# Altium footprint library 29_to_100_Pin.PcbLib: 45 footprints (part 2 of 3)
Each footprint in its own frame and in the unit in brackets; x right, y up, seen from the top. Pads: shape width x height; smd on the part's side, far side on the other; paste and mask are expansions set on the pad; w line width, h text height; cw(c..) or ccw(c..) is an arc to the next point about the centre after c.
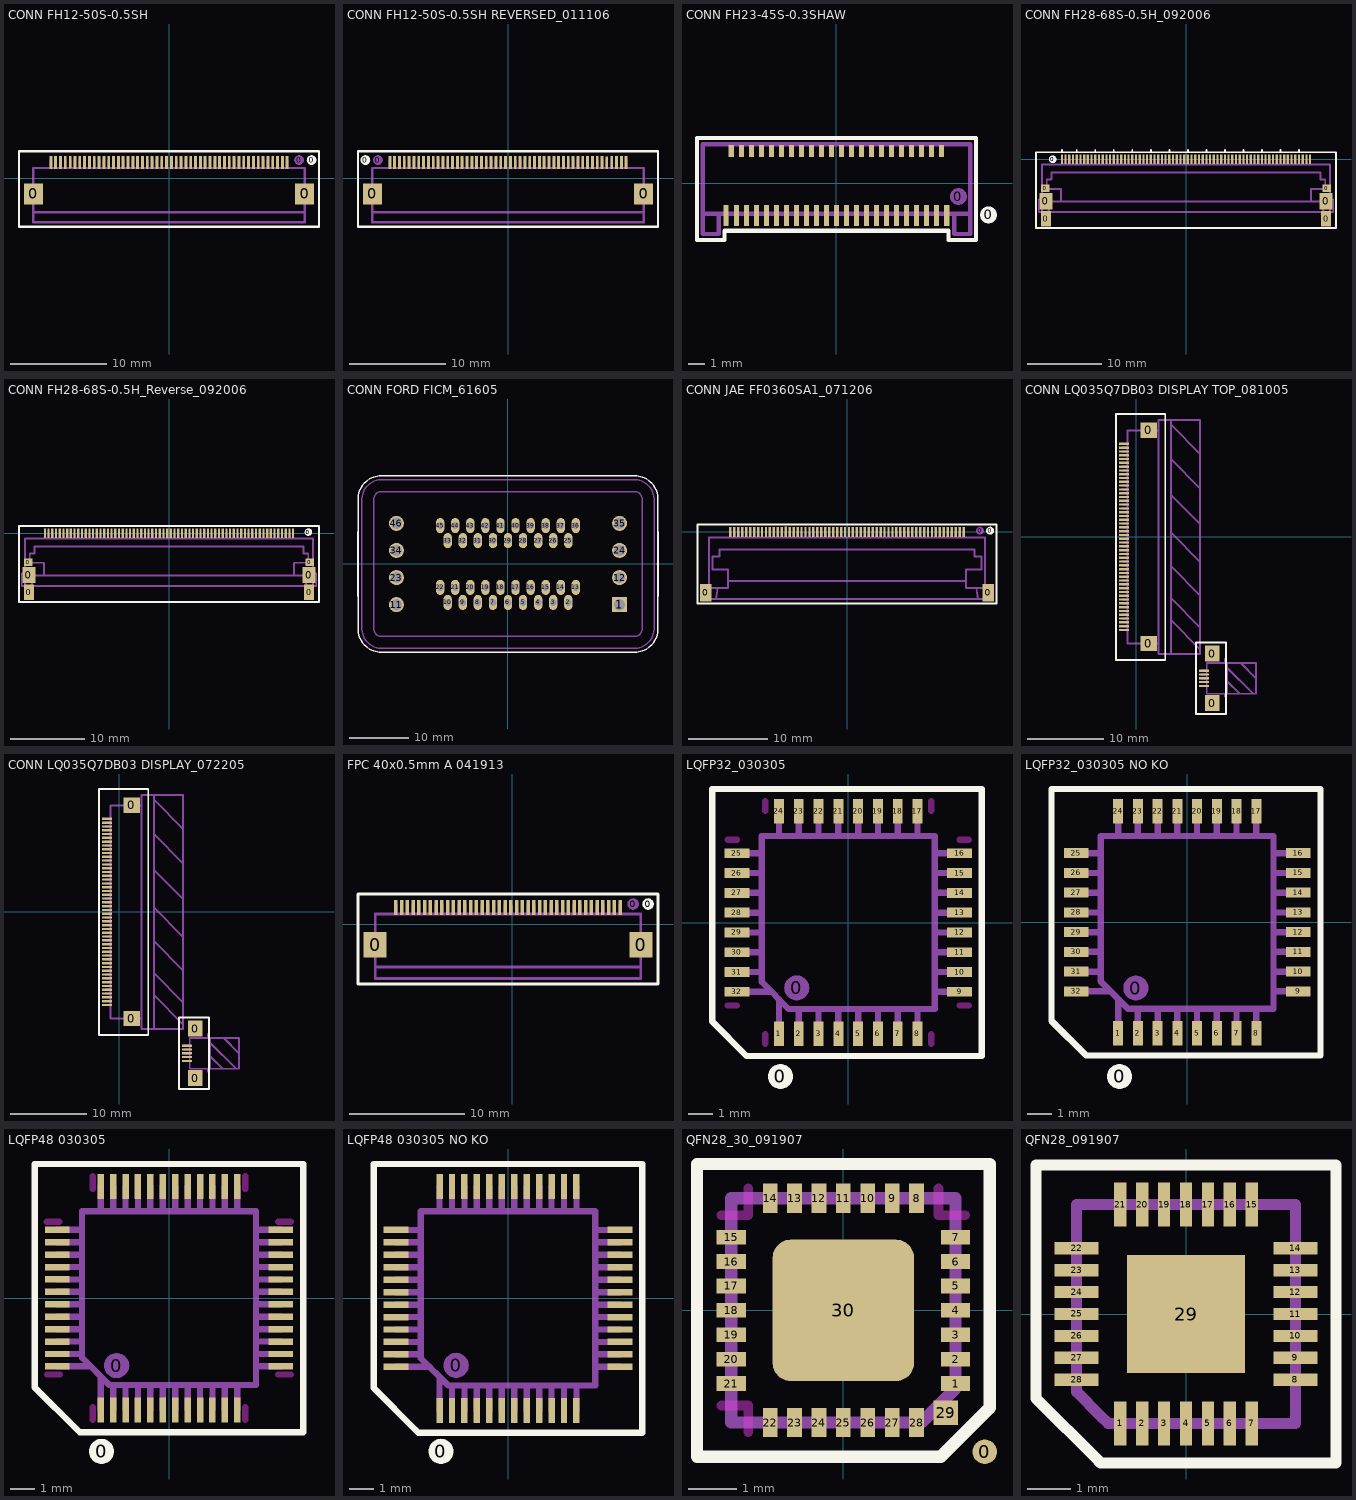
[diagram p1: the footprints below, top view; thin cyan lines are the x and y axes]

## CONN FH12-50S-0.5SH [mm] "SM FP"
height 2
pads (54):
  rect 2x2.2 smd mask+0.025: 0(-14.05,-1.63) 0(14.05,-1.63)
  round 1.016 on Mech1 mask+0.025: 0(13.488,1.87)
  round 1.016 on Top Overlay mask+0.025: 0(14.788,1.87)
  rect 0.3x1.3 smd mask+0.025: 1(12.25,1.62) 2(11.75,1.62) 3(11.25,1.62) 4(10.75,1.62) 5(10.25,1.62) 6(9.75,1.62) 7(9.25,1.62) 8(8.75,1.62) 9(8.25,1.62) 10(7.75,1.62) 11(7.25,1.62) 12(6.75,1.62) 13(6.25,1.62) 14(5.75,1.62) 15(5.25,1.62) 16(4.75,1.62) 17(4.25,1.62) 18(3.75,1.62) 19(3.25,1.62) 20(2.75,1.62) 21(2.25,1.62) 22(1.75,1.62) 23(1.25,1.62) 24(0.75,1.62) 25(0.25,1.62) 26(-0.25,1.62) 27(-0.75,1.62) 28(-1.25,1.62) 29(-1.75,1.62) 30(-2.25,1.62) 31(-2.75,1.62) 32(-3.25,1.62) 33(-3.75,1.62) 34(-4.25,1.62) 35(-4.75,1.62) 36(-5.25,1.62) 37(-5.75,1.62) 38(-6.25,1.62) 39(-6.75,1.62) 40(-7.25,1.62) 41(-7.75,1.62) 42(-8.25,1.62) 43(-8.75,1.62) 44(-9.25,1.62) 45(-9.75,1.62) 46(-10.238,1.63) 47(-10.75,1.62) 48(-11.25,1.62) 49(-11.75,1.62) 50(-12.25,1.62)
Top Overlay:
  lines w0.254: -15.55,-5.05 -15.45,-5.05 0,-5.05 15.45,-5.05 15.55,-5.05 15.55,2.8 15.45,2.8 0,2.8 -15.45,2.8 -15.55,2.8 -15.55,-5.05
Assembly:
  lines w0.254: -14.05,-2.15 -14.55,-2.15 -14.55,-0.95 -14.05,-0.95 -14.05,1.05 ; -12.238,1.06 -12.238,1.86 ; -11.738,1.06 -11.738,1.86 ; -11.238,1.06 -11.238,1.86 ; -10.738,1.06 -10.738,1.86 ; -10.238,1.06 -10.238,1.86 ; -9.75,1.05 -9.75,1.85 ; -9.25,1.05 -9.25,1.85 ; -8.75,1.05 -8.75,1.85 ; -8.25,1.05 -8.25,1.85 ; -7.75,1.05 -7.75,1.85 ; -7.25,1.05 -7.25,1.85 ; -6.75,1.05 -6.75,1.85 ; -6.25,1.05 -6.25,1.85 ; -5.75,1.05 -5.75,1.85 ; -5.25,1.05 -5.25,1.85 ; -4.75,1.05 -4.75,1.85 ; -4.25,1.05 -4.25,1.85 ; -3.75,1.05 -3.75,1.85 ; -3.25,1.05 -3.25,1.85 ; -2.75,1.05 -2.75,1.85 ; -2.25,1.05 -2.25,1.85 ; -1.75,1.05 -1.75,1.85 ; -1.25,1.05 -1.25,1.85 ; -0.75,1.05 -0.75,1.85 ; -0.25,1.05 -0.25,1.85 ; 0,1.05 -14.05,1.05 ; 0.25,1.05 0.25,1.85 ; 0.75,1.05 0.75,1.85 ; 1.25,1.05 1.25,1.85 ; 1.75,1.05 1.75,1.85 ; 2.25,1.05 2.25,1.85 ; 2.75,1.05 2.75,1.85 ; 3.25,1.05 3.25,1.85 ; 3.75,1.05 3.75,1.85 ; 4.25,1.05 4.25,1.85 ; 4.75,1.05 4.75,1.85 ; 5.25,1.05 5.25,1.85 ; 5.75,1.05 5.75,1.85 ; 6.25,1.05 6.25,1.85 ; 6.75,1.05 6.75,1.85 ; 7.25,1.05 7.25,1.85 ; 7.75,1.05 7.75,1.85 ; 8.25,1.05 8.25,1.85 ; 8.75,1.05 8.75,1.85 ; 9.25,1.05 9.25,1.85 ; 9.75,1.05 9.75,1.85 ; 10.25,1.05 10.25,1.85 ; 10.75,1.05 10.75,1.85 ; 11.25,1.05 11.25,1.85 ; 11.75,1.05 11.75,1.85 ; 12.25,1.05 12.25,1.85 ; 14.05,-2.15 14.55,-2.15 14.55,-0.95 14.05,-0.95 ; -14.05,1.05 14.05,1.05 14.05,-3.55 ; -14.05,1.05 -14.05,-3.55 14.05,-3.55 ; -14.05,1.05 -14.05,-4.55 14.05,-4.55 14.05,-3.55
Assembly Designator:
  text ".Designator" at -1.35,-0.55 h1.02
Assembly Comment:
  text ".Comment" at -4.3,-2.4 h1.02

## CONN FH12-50S-0.5SH REVERSED_011106 [mm] "SM FP"
height 2
pads (54):
  round 1.016 on Top Overlay mask+0.025: 0(-14.788,1.87)
  rect 2x2.2 smd mask+0.025: 0(-14.05,-1.63) 0(14.05,-1.63)
  round 1.016 on Mech1 mask+0.025: 0(-13.488,1.87)
  rect 0.3x1.3 smd mask+0.025: 1(-12.25,1.62) 2(-11.75,1.62) 3(-11.25,1.62) 4(-10.75,1.62) 5(-10.25,1.62) 6(-9.75,1.62) 7(-9.25,1.62) 8(-8.75,1.62) 9(-8.25,1.62) 10(-7.75,1.62) 11(-7.25,1.62) 12(-6.75,1.62) 13(-6.25,1.62) 14(-5.75,1.62) 15(-5.25,1.62) 16(-4.75,1.62) 17(-4.25,1.62) 18(-3.75,1.62) 19(-3.25,1.62) 20(-2.75,1.62) 21(-2.25,1.62) 22(-1.75,1.62) 23(-1.25,1.62) 24(-0.75,1.62) 25(-0.25,1.62) 26(0.25,1.62) 27(0.75,1.62) 28(1.25,1.62) 29(1.75,1.62) 30(2.25,1.62) 31(2.75,1.62) 32(3.25,1.62) 33(3.75,1.62) 34(4.25,1.62) 35(4.75,1.62) 36(5.25,1.62) 37(5.75,1.62) 38(6.25,1.62) 39(6.75,1.62) 40(7.25,1.62) 41(7.75,1.62) 42(8.25,1.62) 43(8.75,1.62) 44(9.25,1.62) 45(9.75,1.62) 46(10.238,1.61) 47(10.75,1.62) 48(11.25,1.62) 49(11.75,1.62) 50(12.25,1.62)
Top Overlay:
  lines w0.254: -15.55,-5.05 -15.45,-5.05 0,-5.05 15.45,-5.05 15.55,-5.05 15.55,2.8 15.45,2.8 0,2.8 -15.45,2.8 -15.55,2.8 -15.55,-5.05
Assembly:
  lines w0.254: -14.05,-2.15 -14.55,-2.15 -14.55,-0.95 -14.05,-0.95 -14.05,1.05 ; -12.238,1.06 -12.238,1.86 ; -11.738,1.06 -11.738,1.86 ; -11.238,1.06 -11.238,1.86 ; -10.738,1.06 -10.738,1.86 ; -10.238,1.06 -10.238,1.86 ; -9.75,1.05 -9.75,1.85 ; -9.25,1.05 -9.25,1.85 ; -8.75,1.05 -8.75,1.85 ; -8.25,1.05 -8.25,1.85 ; -7.75,1.05 -7.75,1.85 ; -7.25,1.05 -7.25,1.85 ; -6.75,1.05 -6.75,1.85 ; -6.25,1.05 -6.25,1.85 ; -5.75,1.05 -5.75,1.85 ; -5.25,1.05 -5.25,1.85 ; -4.75,1.05 -4.75,1.85 ; -4.25,1.05 -4.25,1.85 ; -3.75,1.05 -3.75,1.85 ; -3.25,1.05 -3.25,1.85 ; -2.75,1.05 -2.75,1.85 ; -2.25,1.05 -2.25,1.85 ; -1.75,1.05 -1.75,1.85 ; -1.25,1.05 -1.25,1.85 ; -0.75,1.05 -0.75,1.85 ; -0.25,1.05 -0.25,1.85 ; 0,1.05 -14.05,1.05 ; 0.25,1.05 0.25,1.85 ; 0.75,1.05 0.75,1.85 ; 1.25,1.05 1.25,1.85 ; 1.75,1.05 1.75,1.85 ; 2.25,1.05 2.25,1.85 ; 2.75,1.05 2.75,1.85 ; 3.25,1.05 3.25,1.85 ; 3.75,1.05 3.75,1.85 ; 4.25,1.05 4.25,1.85 ; 4.75,1.05 4.75,1.85 ; 5.25,1.05 5.25,1.85 ; 5.75,1.05 5.75,1.85 ; 6.25,1.05 6.25,1.85 ; 6.75,1.05 6.75,1.85 ; 7.25,1.05 7.25,1.85 ; 7.75,1.05 7.75,1.85 ; 8.25,1.05 8.25,1.85 ; 8.75,1.05 8.75,1.85 ; 9.25,1.05 9.25,1.85 ; 9.75,1.05 9.75,1.85 ; 10.25,1.05 10.25,1.85 ; 10.75,1.05 10.75,1.85 ; 11.25,1.05 11.25,1.85 ; 11.75,1.05 11.75,1.85 ; 12.25,1.05 12.25,1.85 ; 14.05,-2.15 14.55,-2.15 14.55,-0.95 14.05,-0.95 ; -14.05,1.05 14.05,1.05 14.05,-3.55 ; -14.05,1.05 -14.05,-3.55 14.05,-3.55 ; -14.05,1.05 -14.05,-4.55 14.05,-4.55 14.05,-3.55
Assembly Designator:
  text ".Designator" at -1.35,-0.55 h1.02
Assembly Comment:
  text ".Comment" at -4.3,-2.4 h1.02

## CONN FH23-45S-0.3SHAW [mm] "SM FP"
height 1.25
pads (47):
  round 1.016 on Mech1 mask+0.038: 0(7.3,-0.8)
  round 1.016 on Top Overlay mask+0.038: 0(9.1,-1.9)
  rect 0.3x1.25 smd mask+0.038: 1(6.6,-1.925) 3(6,-1.925) 5(5.4,-1.925) 7(4.8,-1.925) 9(4.2,-1.925) 11(3.6,-1.925) 13(3,-1.925) 15(2.4,-1.925) 17(1.8,-1.925) 19(1.2,-1.925) 21(0.6,-1.925) 23(0,-1.925) 25(-0.6,-1.925) 27(-1.2,-1.925) 29(-1.8,-1.925) 31(-2.4,-1.925) 33(-3,-1.925) 35(-3.6,-1.925) 37(-4.2,-1.925) 39(-4.8,-1.925) 41(-5.4,-1.925) 43(-6,-1.925) 45(-6.6,-1.925)
  rect 0.3x0.7 smd mask+0.038: 2(6.3,1.925) 4(5.7,1.925) 6(5.1,1.925) 8(4.5,1.925) 10(3.9,1.925) 12(3.3,1.925) 14(2.7,1.925) 16(2.1,1.925) 18(1.5,1.925) 20(0.9,1.925) 22(0.3,1.925) 24(-0.3,1.925) 26(-0.9,1.925) 28(-1.5,1.925) 30(-2.1,1.925) 32(-2.7,1.925) 34(-3.3,1.925) 36(-3.9,1.925) 38(-4.5,1.925) 40(-5.1,1.925) 42(-5.7,1.925) 44(-6.3,1.925)
Top Overlay:
  lines w0.254: -8.35,-3.4 -6.7,-3.4 -6.7,-2.85 0,-2.85 6.7,-2.85 6.7,-3.4 8.35,-3.4 8.35,2.7 0,2.7 -8.35,2.7 -8.35,-3.4
Assembly:
  lines w0.254: -7.05,-1.825 -7.05,-3.05 -8,-3.05 -8,2.325 ; -6.6,-2.375 -6.6,-1.825 ; -6,-2.375 -6,-1.825 ; -5.4,-2.375 -5.4,-1.825 ; -4.8,-2.375 -4.8,-1.825 ; -4.2,-2.375 -4.2,-1.825 ; -3.6,-2.375 -3.6,-1.825 ; -3,-2.375 -3,-1.825 ; -2.4,-2.375 -2.4,-1.825 ; -1.8,-2.375 -1.8,-1.825 ; -1.2,-2.375 -1.2,-1.825 ; -0.6,-2.375 -0.6,-1.825 ; 0,-2.375 0,-1.825 ; 0,2.325 -8,2.325 ; 0.6,-2.375 0.6,-1.825 ; 1.2,-2.375 1.2,-1.825 ; 1.8,-2.375 1.8,-1.825 ; 2.4,-2.375 2.4,-1.825 ; 3,-2.375 3,-1.825 ; 3.6,-2.375 3.6,-1.825 ; 4.2,-2.375 4.2,-1.825 ; 4.8,-2.375 4.8,-1.825 ; 5.4,-2.375 5.4,-1.825 ; 6,-2.375 6,-1.825 ; 6.6,-2.375 6.6,-1.825 ; 7.05,-1.825 7.05,-3.05 8,-3.05 8,-1.825 ; -8,2.325 -8,-1.825 8,-1.825 ; -8,2.325 8,2.325 8,-1.825
Assembly Designator:
  text ".Designator" at -1.65,-0.4 h1.02
Assembly Comment:
  text ".Comment" at -4.65,-4.1 h1.02

## CONN FH28-68S-0.5H_092006 [mm] "SMT FP"
height 2.55
pads (76):
  rect 1.1x1 smd: 0(-19,-3.9) 0(19,-3.9)
  rect 1.4x2.1 smd: 0(-18.9,-8) 0(18.9,-8)
  rect 1.8x2.2 smd: 0(-18.9,-5.65)
  round 1.016 on Top Overlay mask+0.025: 0(-18,0)
  round 1.016 on Mech1 mask+0.025: 0(-18,0)
  rect 1.8x2.2 smd mask+0.025: 0(18.9,-5.65)
  rect 0.3x1.3 smd mask+0.025: 1(-16.75,-0.005) 2(-16.25,-0.005) 3(-15.75,-0.005) 4(-15.25,-0.005) 5(-14.75,-0.005) 6(-14.25,-0.005) 7(-13.75,-0.005) 8(-13.25,-0.005) 9(-12.75,-0.005) 10(-12.25,-0.005) 11(-11.75,-0.005) 12(-11.25,-0.005) 13(-10.75,-0.005) 14(-10.25,-0.005) 15(-9.75,-0.005) 16(-9.25,-0.005) 17(-8.75,-0.005) 18(-8.25,-0.005) 19(-7.75,-0.005) 20(-7.25,-0.005) 21(-6.75,-0.005) 22(-6.25,-0.005) 23(-5.738,0.005) 24(-5.25,-0.005) 25(-4.75,-0.005) 26(-4.25,-0.005) 27(-3.75,-0.005) 28(-3.25,-0.005) 29(-2.75,-0.005) 30(-2.25,-0.005) 31(-1.75,-0.005) 32(-1.25,-0.005) 33(-0.75,-0.005) 34(-0.25,-0.005) 35(0.25,-0.005) 36(0.75,-0.005) 37(1.25,-0.005) 38(1.75,-0.005) 39(2.25,-0.005) 40(2.75,-0.005) 41(3.25,-0.005) 42(3.75,-0.005) 43(4.25,-0.005) 44(4.75,-0.005) 45(5.25,-0.005) 46(5.75,-0.005) 47(6.25,-0.005) 48(6.75,-0.005) 49(7.25,-0.005) 50(7.75,-0.005) 51(8.25,-0.005) 52(8.75,-0.005) 53(9.25,-0.005) 54(9.75,-0.005) 55(10.25,-0.005) 56(10.75,-0.005) 57(11.25,-0.005) 58(11.75,-0.005) 59(12.25,-0.005) 60(12.75,-0.005) 61(13.25,-0.005) 62(13.75,-0.005) 63(14.25,-0.005) 64(14.75,-0.005) 65(15.25,-0.005) 66(15.75,-0.005) 67(16.25,-0.005) 68(16.75,-0.005)
Top Overlay:
  lines w0.254: -16.75,0.95 -16.75,1.25 ; -14.75,0.95 -14.75,1.25 ; -12.25,0.95 -12.25,1.25 ; -9.75,0.95 -9.75,1.25 ; -7.25,0.95 -7.25,1.25 ; -4.75,0.95 -4.75,1.25 ; -2.25,0.95 -2.25,1.25 ; 0.25,0.95 0.25,1.25 ; 2.75,0.95 2.75,1.25 ; 5.25,0.95 5.25,1.25 ; 7.75,0.95 7.75,1.25 ; 10.25,0.95 10.25,1.25 ; 12.75,0.95 12.75,1.25 ; 15.25,0.95 15.25,1.25 ; -20.25,-9.275 2,-9.275 20.25,-9.275 20.25,0.95 2,0.95 -20.25,0.95 -20.25,-9.275
Assembly:
  lines w0.254: -19.45,-7.125 -19.45,-0.7 2,-0.7 19.45,-0.7 ; -19.45,-5.7 -16.85,-5.7 ; -19.45,-5.425 -19.875,-5.425 -19.875,-7.125 2,-7.125 19.875,-7.125 19.875,-5.425 19.45,-5.425 ; -18.575,-7.125 -18.35,-5.7 ; -16.75,-0.695 -16.75,0 ; -16.25,-0.695 -16.25,0 ; -15.75,-0.695 -15.75,0 ; -15.25,-0.67 -15.25,0.025 ; -14.75,-0.695 -14.75,0 ; -14.25,-0.695 -14.25,0 ; -13.75,-0.695 -13.75,0 ; -13.25,-0.695 -13.25,0 ; -12.75,-0.7 -12.75,-0.005 ; -12.25,-0.7 -12.25,-0.005 ; -11.75,-0.7 -11.75,-0.005 ; -11.25,-0.7 -11.25,-0.005 ; -10.75,-0.7 -10.75,-0.005 ; -10.25,-0.7 -10.25,-0.005 ; -9.75,-0.7 -9.75,-0.005 ; -9.25,-0.7 -9.25,-0.005 ; -8.75,-0.7 -8.75,-0.005 ; -8.25,-0.7 -8.25,-0.005 ; -7.75,-0.7 -7.75,-0.005 ; -7.25,-0.7 -7.25,-0.005 ; -6.75,-0.7 -6.75,-0.005 ; -6.25,-0.7 -6.25,-0.005 ; -5.75,-0.7 -5.75,-0.005 ; -5.25,-0.7 -5.25,-0.005 ; -4.75,-0.7 -4.75,-0.005 ; -4.25,-0.7 -4.25,-0.005 ; -3.75,-0.7 -3.75,-0.005 ; -3.25,-0.7 -3.25,-0.005 ; -2.75,-0.7 -2.75,-0.005 ; -2.25,-0.7 -2.25,-0.005 ; -1.75,-0.7 -1.75,-0.005 ; -1.25,-0.7 -1.25,-0.005 ; -0.75,-0.7 -0.75,-0.005 ; -0.25,-0.7 -0.25,-0.005 ; 0.25,-0.7 0.25,-0.005 ; 0.75,-0.7 0.75,-0.005 ; 1.25,-0.7 1.25,-0.005 ; 1.75,-0.7 1.75,-0.005 ; 2.25,-0.7 2.25,-0.005 ; 2.75,-0.7 2.75,-0.005 ; 3.25,-0.7 3.25,-0.005 ; 3.75,-0.7 3.75,-0.005 ; 4.25,-0.7 4.25,-0.005 ; 4.75,-0.7 4.75,-0.005 ; 5.25,-0.7 5.25,-0.005 ; 5.75,-0.7 5.75,-0.005 ; 6.25,-0.7 6.25,-0.005 ; 6.75,-0.7 6.75,-0.005 ; 7.25,-0.7 7.25,-0.005 ; 7.75,-0.7 7.75,-0.005 ; 8.25,-0.7 8.25,-0.005 ; 8.75,-0.7 8.75,-0.005 ; 9.25,-0.7 9.25,-0.005 ; 9.75,-0.7 9.75,-0.005 ; 10.25,-0.7 10.25,-0.005 ; 10.75,-0.7 10.75,-0.005 ; 11.25,-0.7 11.25,-0.005 ; 11.75,-0.7 11.75,-0.005 ; 12.25,-0.7 12.25,-0.005 ; 12.75,-0.7 12.75,-0.005 ; 13.25,-0.7 13.25,-0.005 ; 13.75,-0.7 13.75,-0.005 ; 14.25,-0.7 14.25,-0.005 ; 14.75,-0.7 14.75,-0.005 ; 15.25,-0.7 15.25,-0.005 ; 15.75,-0.7 15.75,-0.005 ; 16.25,-0.7 16.25,-0.005 ; 16.75,-0.7 16.75,-0.005 ; 18.35,-5.7 18.575,-7.125 ; 19.45,-7.125 19.45,-0.7 ; 19.45,-5.7 16.85,-5.7 ; 19.45,-2.2 19.45,-0.7 ; -16.85,-5.7 -11.2,-5.7 2,-5.7 15.2,-5.7 16.85,-5.7 ; -16.85,-5.7 -16.85,-4 -18.8,-4 -18.8,-2.725 -18.15,-2.725 -18.15,-1.8 2,-1.8 18.15,-1.8 18.15,-2.725 18.8,-2.725 18.8,-4 16.85,-4 16.85,-5.7
Assembly Designator:
  text ".Designator" at 0.95,-3.575 h1.02
Assembly Comment:
  text ".Comment" at -2.7,-5.175 h1.02

## CONN FH28-68S-0.5H_Reverse_092006 [mm] "SMT FP"
height 2.55
pads (76):
  rect 1.1x1 smd: 0(-19,-3.9) 0(19,-3.9)
  rect 1.4x2.1 smd: 0(-18.9,-8) 0(18.9,-8)
  rect 1.8x2.2 smd: 0(-18.9,-5.65)
  round 1.016 on Top Overlay mask+0.025: 0(18.825,0.15)
  round 1.016 on Mech1 mask+0.025: 0(18.825,0.15)
  rect 1.8x2.2 smd mask+0.025: 0(18.9,-5.65)
  rect 0.3x1.3 smd mask+0.025: 1(16.75,-0.005) 2(16.25,-0.005) 3(15.75,-0.005) 4(15.25,-0.005) 5(14.75,-0.005) 6(14.25,-0.005) 7(13.75,-0.005) 8(13.25,-0.005) 9(12.75,-0.005) 10(12.25,-0.005) 11(11.75,-0.005) 12(11.25,-0.005) 13(10.75,-0.005) 14(10.25,-0.005) 15(9.75,-0.005) 16(9.25,-0.005) 17(8.75,-0.005) 18(8.25,-0.005) 19(7.75,-0.005) 20(7.25,-0.005) 21(6.75,-0.005) 22(6.25,-0.005) 23(5.75,-0.005) 24(5.25,-0.005) 25(4.75,-0.005) 26(4.25,-0.005) 27(3.75,-0.005) 28(3.25,-0.005) 29(2.75,-0.005) 30(2.25,-0.005) 31(1.75,-0.005) 32(1.25,-0.005) 33(0.75,-0.005) 34(0.25,-0.005) 35(-0.25,-0.005) 36(-0.75,-0.005) 37(-1.25,-0.005) 38(-1.75,-0.005) 39(-2.25,-0.005) 40(-2.75,-0.005) 41(-3.25,-0.005) 42(-3.75,-0.005) 43(-4.25,-0.005) 44(-4.75,-0.005) 45(-5.25,-0.005) 46(-5.738,0.005) 47(-6.25,-0.005) 48(-6.75,-0.005) 49(-7.25,-0.005) 50(-7.75,-0.005) 51(-8.25,-0.005) 52(-8.75,-0.005) 53(-9.25,-0.005) 54(-9.75,-0.005) 55(-10.25,-0.005) 56(-10.75,-0.005) 57(-11.25,-0.005) 58(-11.75,-0.005) 59(-12.25,-0.005) 60(-12.75,-0.005) 61(-13.25,-0.005) 62(-13.75,-0.005) 63(-14.25,-0.005) 64(-14.75,-0.005) 65(-15.25,-0.005) 66(-15.75,-0.005) 67(-16.25,-0.005) 68(-16.75,-0.005)
Top Overlay:
  lines w0.254: -20.25,-9.275 2,-9.275 20.25,-9.275 20.25,0.95 2,0.95 -20.25,0.95 -20.25,-9.275
Assembly:
  lines w0.254: -19.45,-7.125 -19.45,-0.7 2,-0.7 19.45,-0.7 ; -19.45,-5.7 -16.85,-5.7 ; -19.45,-5.425 -19.875,-5.425 -19.875,-7.125 2,-7.125 19.875,-7.125 19.875,-5.425 19.45,-5.425 ; -18.575,-7.125 -18.35,-5.7 ; -16.75,-0.695 -16.75,0 ; -16.25,-0.695 -16.25,0 ; -15.75,-0.695 -15.75,0 ; -15.25,-0.67 -15.25,0.025 ; -14.75,-0.695 -14.75,0 ; -14.25,-0.695 -14.25,0 ; -13.75,-0.695 -13.75,0 ; -13.25,-0.695 -13.25,0 ; -12.75,-0.7 -12.75,-0.005 ; -12.25,-0.7 -12.25,-0.005 ; -11.75,-0.7 -11.75,-0.005 ; -11.25,-0.7 -11.25,-0.005 ; -10.75,-0.7 -10.75,-0.005 ; -10.25,-0.7 -10.25,-0.005 ; -9.75,-0.7 -9.75,-0.005 ; -9.25,-0.7 -9.25,-0.005 ; -8.75,-0.7 -8.75,-0.005 ; -8.25,-0.7 -8.25,-0.005 ; -7.75,-0.7 -7.75,-0.005 ; -7.25,-0.7 -7.25,-0.005 ; -6.75,-0.7 -6.75,-0.005 ; -6.25,-0.7 -6.25,-0.005 ; -5.75,-0.7 -5.75,-0.005 ; -5.25,-0.7 -5.25,-0.005 ; -4.75,-0.7 -4.75,-0.005 ; -4.25,-0.7 -4.25,-0.005 ; -3.75,-0.7 -3.75,-0.005 ; -3.25,-0.7 -3.25,-0.005 ; -2.75,-0.7 -2.75,-0.005 ; -2.25,-0.7 -2.25,-0.005 ; -1.75,-0.7 -1.75,-0.005 ; -1.25,-0.7 -1.25,-0.005 ; -0.75,-0.7 -0.75,-0.005 ; -0.25,-0.7 -0.25,-0.005 ; 0.25,-0.7 0.25,-0.005 ; 0.75,-0.7 0.75,-0.005 ; 1.25,-0.7 1.25,-0.005 ; 1.75,-0.7 1.75,-0.005 ; 2.25,-0.7 2.25,-0.005 ; 2.75,-0.7 2.75,-0.005 ; 3.25,-0.7 3.25,-0.005 ; 3.75,-0.7 3.75,-0.005 ; 4.25,-0.7 4.25,-0.005 ; 4.75,-0.7 4.75,-0.005 ; 5.25,-0.7 5.25,-0.005 ; 5.75,-0.7 5.75,-0.005 ; 6.25,-0.7 6.25,-0.005 ; 6.75,-0.7 6.75,-0.005 ; 7.25,-0.7 7.25,-0.005 ; 7.75,-0.7 7.75,-0.005 ; 8.25,-0.7 8.25,-0.005 ; 8.75,-0.7 8.75,-0.005 ; 9.25,-0.7 9.25,-0.005 ; 9.75,-0.7 9.75,-0.005 ; 10.25,-0.7 10.25,-0.005 ; 10.75,-0.7 10.75,-0.005 ; 11.25,-0.7 11.25,-0.005 ; 11.75,-0.7 11.75,-0.005 ; 12.25,-0.7 12.25,-0.005 ; 12.75,-0.7 12.75,-0.005 ; 13.25,-0.7 13.25,-0.005 ; 13.75,-0.7 13.75,-0.005 ; 14.25,-0.7 14.25,-0.005 ; 14.75,-0.7 14.75,-0.005 ; 15.25,-0.7 15.25,-0.005 ; 15.75,-0.7 15.75,-0.005 ; 16.25,-0.7 16.25,-0.005 ; 16.75,-0.7 16.75,-0.005 ; 18.35,-5.7 18.575,-7.125 ; 19.45,-7.125 19.45,-0.7 ; 19.45,-5.7 16.85,-5.7 ; 19.45,-2.2 19.45,-0.7 ; -16.85,-5.7 -11.2,-5.7 2,-5.7 15.2,-5.7 16.85,-5.7 ; -16.85,-5.7 -16.85,-4 -18.8,-4 -18.8,-2.725 -18.15,-2.725 -18.15,-1.8 2,-1.8 18.15,-1.8 18.15,-2.725 18.8,-2.725 18.8,-4 16.85,-4 16.85,-5.7
Assembly Designator:
  text ".Designator" at 0.95,-3.575 h1.02
Assembly Comment:
  text ".Comment" at -2.7,-5.175 h1.02

## CONN FORD FICM_61605 [mil] "TH"
height 1.23
pads (46):
  rect 100x100 hole 75: 1(740,-270)
  oval 55x100 hole 45: 2(400,-255) 3(300,-255) 4(200,-255) 5(100,-255) 6(0,-255) 7(-100,-255) 8(-200,-255) 9(-300,-255) 10(-400,-255) 13(450,-155) 14(350,-155) 15(250,-155) 16(150,-155) 17(50,-155) 18(-50,-155) 19(-150,-155) 20(-250,-155) 21(-350,-155) 22(-450,-155) 25(400,155) 26(300,155) 27(200,155) 28(100,155) 29(0,155) 30(-100,155) 31(-200,155) 32(-300,155) 33(-400,155) 36(450,255) 37(350,255) 38(250,255) 39(150,255) 40(50,255) 41(-50,255) 42(-150,255) 43(-250,255) 44(-350,255) 45(-450,255)
  round 100 hole 75: 11(-740,-270) 12(740,-90) 23(-740,-90) 24(740,90) 34(-740,90) 35(740,270) 46(-740,270)
Top Overlay:
  lines w10: 990,0 995,0 ; 995,0 994.93,430.07 ccw(c840,430.07) 840,585 0,585 -840,585 ccw(c-840,430.07) -994.93,430.07 -995,0 -994.93,-430.07 ccw(c-840,-430.07) -840,-585 0,-585 840,-585 ccw(c840,-430.07) 994.93,-430.07 995,0
Assembly:
  lines w10: -970,-425 ccw(c-835,-425) -835,-560 835,-560 ccw(c835,-425) 970,-425 970,425 ccw(c835,425) 835,560 -835,560 ccw(c-835,425) -970,425 -970,-425 ; -890,-430 ccw(c-840,-430) -840,-480 840,-480 ccw(c840,-430) 890,-430 890,430 ccw(c840,430) 840,480 -840,480 ccw(c-840,430) -890,430 -890,-430
Assembly Designator:
  text ".Designator" at -89.96,-25.75 h40
Assembly Comment:
  text ".Comment" at -215,-385 h40

## CONN JAE FF0360SA1_071206 [mm] "SMT FP"
height 2
pads (64):
  rect 1.5x2.2 smd mask+0.025: 0(-17.875,-7.675) 0(17.875,-7.675)
  round 1.016 on Mech1 mask+0.025: 0(16.825,0.15)
  round 1.016 on Top Overlay mask+0.025: 0(18.1,0.15)
  rect 0.3x1.3 smd mask+0.025: 1(14.75,-0.005) 2(14.25,-0.005) 3(13.75,-0.005) 4(13.25,-0.005) 5(12.75,-0.005) 6(12.25,-0.005) 7(11.75,-0.005) 8(11.25,-0.005) 9(10.75,-0.005) 10(10.25,-0.005) 11(9.75,-0.005) 12(9.25,-0.005) 13(8.75,-0.005) 14(8.25,-0.005) 15(7.75,-0.005) 16(7.25,-0.005) 17(6.75,-0.005) 18(6.25,-0.005) 19(5.75,-0.005) 20(5.25,-0.005) 21(4.75,-0.005) 22(4.25,-0.005) 23(3.75,-0.005) 24(3.25,-0.005) 25(2.75,-0.005) 26(2.25,-0.005) 27(1.75,-0.005) 28(1.25,-0.005) 29(0.75,-0.005) 30(0.25,-0.005) 31(-0.25,-0.005) 32(-0.75,-0.005) 33(-1.25,-0.005) 34(-1.75,-0.005) 35(-2.25,-0.005) 36(-2.75,-0.005) 37(-3.25,-0.005) 38(-3.75,-0.005) 39(-4.25,-0.005) 40(-4.75,-0.005) 41(-5.25,-0.005) 42(-5.75,-0.005) 43(-6.25,-0.005) 44(-6.75,-0.005) 45(-7.25,-0.005) 46(-7.738,0.005) 47(-8.25,-0.005) 48(-8.75,-0.005) 49(-9.25,-0.005) 50(-9.75,-0.005) 51(-10.25,-0.005) 52(-10.75,-0.005) 53(-11.25,-0.005) 54(-11.75,-0.005) 55(-12.25,-0.005) 56(-12.75,-0.005) 57(-13.25,-0.005) 58(-13.75,-0.005) 59(-14.25,-0.005) 60(-14.75,-0.005)
Top Overlay:
  lines w0.254: -18.925,-9.075 -18.925,0.95 0,0.95 18.925,0.95 18.925,-9.075 0,-9.075 -18.925,-9.075
Assembly:
  lines w0.254: -17.45,-2.2 -17.45,-0.7 ; -16.575,-8.5 -16.35,-7.075 -17.45,-7.075 ; -16.55,-8.5 -17.45,-8.5 ; -16.55,-7.075 -17.45,-7.075 ; -15.05,-6.2 -13.2,-6.2 0,-6.2 13.2,-6.2 15.05,-6.2 ; -14.75,-0.7 -14.75,-0.005 ; -14.25,-0.7 -14.25,-0.005 ; -13.75,-0.7 -13.75,-0.005 ; -13.25,-0.7 -13.25,-0.005 ; -12.75,-0.7 -12.75,-0.005 ; -12.25,-0.7 -12.25,-0.005 ; -11.75,-0.7 -11.75,-0.005 ; -11.25,-0.7 -11.25,-0.005 ; -10.75,-0.7 -10.75,-0.005 ; -10.25,-0.7 -10.25,-0.005 ; -9.75,-0.7 -9.75,-0.005 ; -9.25,-0.7 -9.25,-0.005 ; -8.75,-0.7 -8.75,-0.005 ; -8.25,-0.7 -8.25,-0.005 ; -7.75,-0.7 -7.75,-0.005 ; -7.25,-0.7 -7.25,-0.005 ; -6.75,-0.7 -6.75,-0.005 ; -6.25,-0.7 -6.25,-0.005 ; -5.75,-0.7 -5.75,-0.005 ; -5.25,-0.7 -5.25,-0.005 ; -4.75,-0.7 -4.75,-0.005 ; -4.25,-0.7 -4.25,-0.005 ; -3.75,-0.7 -3.75,-0.005 ; -3.25,-0.7 -3.25,-0.005 ; -2.75,-0.7 -2.75,-0.005 ; -2.25,-0.7 -2.25,-0.005 ; -1.75,-0.7 -1.75,-0.005 ; -1.25,-0.7 -1.25,-0.005 ; -0.75,-0.7 -0.75,-0.005 ; -0.25,-0.7 -0.25,-0.005 ; 0.25,-0.7 0.25,-0.005 ; 0.75,-0.7 0.75,-0.005 ; 1.25,-0.7 1.25,-0.005 ; 1.75,-0.7 1.75,-0.005 ; 2.25,-0.7 2.25,-0.005 ; 2.75,-0.7 2.75,-0.005 ; 3.25,-0.7 3.25,-0.005 ; 3.75,-0.7 3.75,-0.005 ; 4.25,-0.7 4.25,-0.005 ; 4.75,-0.7 4.75,-0.005 ; 5.25,-0.7 5.25,-0.005 ; 5.75,-0.7 5.75,-0.005 ; 6.25,-0.7 6.25,-0.005 ; 6.75,-0.7 6.75,-0.005 ; 7.25,-0.7 7.25,-0.005 ; 7.75,-0.7 7.75,-0.005 ; 8.25,-0.7 8.25,-0.005 ; 8.75,-0.7 8.75,-0.005 ; 9.25,-0.7 9.25,-0.005 ; 9.75,-0.7 9.75,-0.005 ; 10.25,-0.7 10.25,-0.005 ; 10.75,-0.7 10.75,-0.005 ; 11.25,-0.7 11.25,-0.005 ; 11.75,-0.7 11.75,-0.005 ; 12.25,-0.7 12.25,-0.005 ; 12.75,-0.7 12.75,-0.005 ; 13.25,-0.7 13.25,-0.005 ; 13.75,-0.7 13.75,-0.005 ; 14.25,-0.7 14.25,-0.005 ; 14.75,-0.7 14.75,-0.005 ; 16.55,-8.5 17.45,-8.5 ; 16.55,-7.075 17.45,-7.075 ; 16.575,-8.5 16.35,-7.075 17.45,-7.075 ; 17.45,-2.2 17.45,-0.7 ; -17.45,-8.5 0,-8.5 17.45,-8.5 ; -17.45,-8.5 -17.45,-0.7 ; -17.45,-8.5 -17.45,-6.8 -17.875,-6.8 -17.875,-8.5 -17.45,-8.5 ; -17.45,-7.075 -15.05,-7.075 -15.05,-4.775 -17,-4.775 -17,-3.125 -16.15,-3.125 -16.15,-2.2 0,-2.2 16.15,-2.2 16.15,-3.125 17,-3.125 17,-4.775 15.05,-4.775 15.05,-7.075 17.45,-7.075 ; -17.45,-0.7 0,-0.7 17.45,-0.7 ; 17.45,-8.5 17.45,-0.7 ; 17.45,-8.5 17.45,-6.8 17.875,-6.8 17.875,-8.5 17.45,-8.5
Assembly Designator:
  text ".Designator" at -1.15,-3.975 h1.02
Assembly Comment:
  text ".Comment" at -4.7,-5.55 h1.02

## CONN LQ035Q7DB03 DISPLAY TOP_081005 [mm] "SM"
height 2.032
pads (59):
  rect 2.2x2 smd mask+0.038: 0(1.625,-14.05) 0(1.625,14.05)
  rect 1.9x2.1 smd mask+0.038: 0(9.967,-21.871) 0(9.967,-15.369)
  rect 1.3x0.3 smd mask+0.038: 1(-1.625,-12.25) 2(-1.625,-11.75) 3(-1.625,-11.25) 4(-1.625,-10.75) 5(-1.625,-10.25) 6(-1.625,-9.75) 7(-1.625,-9.25) 8(-1.625,-8.75) 9(-1.625,-8.25) 10(-1.625,-7.75) 11(-1.625,-7.25) 12(-1.625,-6.75) 13(-1.625,-6.25) 14(-1.625,-5.75) 15(-1.625,-5.25) 16(-1.625,-4.75) 17(-1.625,-4.25) 18(-1.625,-3.75) 19(-1.625,-3.25) 20(-1.625,-2.75) 21(-1.625,-2.25) 22(-1.625,-1.75) 23(-1.625,-1.25) 24(-1.625,-0.75) 25(-1.625,-0.25) 26(-1.625,0.25) 27(-1.625,0.75) 28(-1.625,1.25) 29(-1.625,1.75) 30(-1.625,2.25) 31(-1.625,2.75) 32(-1.625,3.25) 33(-1.625,3.75) 34(-1.625,4.25) 35(-1.625,4.75) 36(-1.625,5.25) 37(-1.625,5.75) 38(-1.625,6.25) 39(-1.625,6.75) 40(-1.625,7.25) 41(-1.625,7.75) 42(-1.625,8.25) 43(-1.625,8.75) 44(-1.625,9.25) 45(-1.625,9.75) 46(-1.625,10.25) 47(-1.625,10.75) 48(-1.625,11.25) 49(-1.625,11.75) 50(-1.625,12.25) A1(8.875,-19.62) A2(8.875,-19.12) A3(8.875,-18.62) A4(8.875,-18.12) A5(8.875,-17.62)
Top Overlay:
  lines w0.254: -2.682,-16.207 3.795,-16.207 3.795,16.178 -2.682,16.178 -2.682,-16.207 ; 7.859,-23.319 11.796,-23.319 11.796,-13.921 7.859,-13.921 7.859,-23.319
Assembly:
  region: -1.158,-6.37 -1.158,-6.12 -1.875,-6.12 -1.875,-6.37
  region: -1.158,-5.87 -1.158,-5.62 -1.875,-5.62 -1.875,-5.87
  region: -1.158,-5.37 -1.158,-5.12 -1.875,-5.12 -1.875,-5.37
  region: -1.158,-4.87 -1.158,-4.62 -1.875,-4.62 -1.875,-4.87
  region: -1.158,-4.37 -1.158,-4.12 -1.875,-4.12 -1.875,-4.37
  region: -1.158,-3.87 -1.158,-3.62 -1.875,-3.62 -1.875,-3.87
  region: -1.158,-3.37 -1.158,-3.12 -1.875,-3.12 -1.875,-3.37
  region: -1.158,-2.87 -1.158,-2.62 -1.875,-2.62 -1.875,-2.87
  region: -1.158,-2.37 -1.158,-2.12 -1.875,-2.12 -1.875,-2.37
  region: -1.158,-1.87 -1.158,-1.62 -1.875,-1.62 -1.875,-1.87
  region: -1.158,-1.37 -1.158,-1.12 -1.875,-1.12 -1.875,-1.37
  region: -1.158,-0.87 -1.158,-0.62 -1.875,-0.62 -1.875,-0.87
  region: -1.158,-0.37 -1.158,-0.12 -1.875,-0.12 -1.875,-0.37
  region: -1.158,0.13 -1.158,0.38 -1.875,0.38 -1.875,0.13
  region: -1.158,0.63 -1.158,0.88 -1.875,0.88 -1.875,0.63
  region: -1.158,1.13 -1.158,1.38 -1.875,1.38 -1.875,1.13
  region: -1.158,1.63 -1.158,1.88 -1.875,1.88 -1.875,1.63
  region: -1.158,2.13 -1.158,2.38 -1.875,2.38 -1.875,2.13
  region: -1.158,2.63 -1.158,2.88 -1.875,2.88 -1.875,2.63
  region: -1.158,3.13 -1.158,3.38 -1.875,3.38 -1.875,3.13
  region: -1.158,3.63 -1.158,3.88 -1.875,3.88 -1.875,3.63
  region: -1.158,4.13 -1.158,4.38 -1.875,4.38 -1.875,4.13
  region: -1.158,4.63 -1.158,4.88 -1.875,4.88 -1.875,4.63
  region: -1.158,5.13 -1.158,5.38 -1.875,5.38 -1.875,5.13
  region: -1.158,5.63 -1.158,5.88 -1.875,5.88 -1.875,5.63
  region: -1.158,6.13 -1.158,6.38 -1.875,6.38 -1.875,6.13
  region: -1.158,6.63 -1.158,6.88 -1.875,6.88 -1.875,6.63
  region: -1.158,7.13 -1.158,7.38 -1.875,7.38 -1.875,7.13
  region: -1.158,7.63 -1.158,7.88 -1.875,7.88 -1.875,7.63
  region: -1.158,8.13 -1.158,8.38 -1.875,8.38 -1.875,8.13
  region: -1.158,8.63 -1.158,8.88 -1.875,8.88 -1.875,8.63
  region: -1.158,9.13 -1.158,9.38 -1.875,9.38 -1.875,9.13
  region: -1.158,9.63 -1.158,9.88 -1.875,9.88 -1.875,9.63
  region: -1.158,10.13 -1.158,10.38 -1.875,10.38 -1.875,10.13
  region: -1.158,10.63 -1.158,10.88 -1.875,10.88 -1.875,10.63
  region: -1.158,11.13 -1.158,11.38 -1.875,11.38 -1.875,11.13
  region: -1.158,11.63 -1.158,11.88 -1.875,11.88 -1.875,11.63
  region: -1.158,12.13 -1.158,12.38 -1.875,12.38 -1.875,12.13
  region: -1.158,-6.87 -1.158,-6.62 -1.875,-6.62 -1.875,-6.87
  region: -1.158,-7.37 -1.158,-7.12 -1.875,-7.12 -1.875,-7.37
  region: -1.158,-7.87 -1.158,-7.62 -1.875,-7.62 -1.875,-7.87
  region: -1.158,-8.37 -1.158,-8.12 -1.875,-8.12 -1.875,-8.37
  region: -1.158,-8.87 -1.158,-8.62 -1.875,-8.62 -1.875,-8.87
  region: -1.158,-9.37 -1.158,-9.12 -1.875,-9.12 -1.875,-9.37
  region: -1.158,-9.87 -1.158,-9.62 -1.875,-9.62 -1.875,-9.87
  region: -1.158,-10.37 -1.158,-10.12 -1.875,-10.12 -1.875,-10.37
  region: -1.158,-10.87 -1.158,-10.62 -1.875,-10.62 -1.875,-10.87
  region: -1.158,-11.37 -1.158,-11.12 -1.875,-11.12 -1.875,-11.37
  region: -1.158,-11.87 -1.158,-11.62 -1.875,-11.62 -1.875,-11.87
  region: -1.158,-12.37 -1.158,-12.12 -1.875,-12.12 -1.875,-12.37
  region: 9.256,-17.731 9.256,-17.477 8.494,-17.477 8.494,-17.731
  region: 9.256,-18.239 9.256,-17.985 8.494,-17.985 8.494,-18.239
  region: 9.256,-18.747 9.256,-18.493 8.494,-18.493 8.494,-18.747
  region: 9.256,-19.255 9.256,-19.001 8.494,-19.001 8.494,-19.255
  region: 9.256,-19.763 9.256,-19.509 8.494,-19.509 8.494,-19.763
  lines w0.254: 2.906,-14.048 -1.158,-14.048 -1.158,14.019 2.906,14.019 ; 4.557,-11 8.367,-14.81 ; 4.557,-8.079 8.367,-11.889 ; 4.557,-3.888 8.367,-7.698 ; 4.557,0.557 8.367,-3.253 ; 4.557,5.51 8.367,1.7 ; 4.557,10.209 8.367,6.399 ; 4.557,14.781 8.367,10.971 ; 11.669,-21.033 11.669,-20.652 ; 11.669,-16.588 11.669,-16.08 ; 11.923,-19.001 13.574,-20.652 ; 11.923,-17.223 15.352,-20.652 ; 13.701,-16.588 15.733,-18.62 ; 4.557,-15.445 2.906,-15.445 2.906,15.416 4.557,15.416 ; 4.557,-15.445 4.557,-14.048 4.557,14.019 4.557,15.416 ; 4.557,-15.445 8.367,-15.445 8.367,15.416 4.557,15.416 ; 11.923,-20.652 9.256,-20.652 9.256,-16.588 11.923,-16.588 ; 11.923,-20.652 11.923,-16.588 ; 11.923,-20.652 15.733,-20.652 15.733,-16.588 11.923,-16.588
  text "NO COMPONENT AREAS" at 6.589,-8.079 h1.02
Assembly Designator:
  text ".Designator" at 0.508,0.889 h1.02
Assembly Comment:
  text ".Comment" at -0.381,4.191 h1.02

## CONN LQ035Q7DB03 DISPLAY_072205 [mm] "SM"
height 2.032
pads (59):
  rect 2.2x2 smd mask+0.038: 0(1.625,-14.05) 0(1.625,14.05)
  rect 1.9x2.1 smd mask+0.038: 0(9.967,-21.871) 0(9.967,-15.369)
  rect 1.3x0.3 smd mask+0.038: 1(-1.625,-12.25) 2(-1.625,-11.75) 3(-1.625,-11.25) 4(-1.625,-10.75) 5(-1.625,-10.25) 6(-1.625,-9.75) 7(-1.625,-9.25) 8(-1.625,-8.75) 9(-1.625,-8.25) 10(-1.625,-7.75) 11(-1.625,-7.25) 12(-1.625,-6.75) 13(-1.625,-6.25) 14(-1.625,-5.75) 15(-1.625,-5.25) 16(-1.625,-4.75) 17(-1.625,-4.25) 18(-1.625,-3.75) 19(-1.625,-3.25) 20(-1.625,-2.75) 21(-1.625,-2.25) 22(-1.625,-1.75) 23(-1.625,-1.25) 24(-1.625,-0.75) 25(-1.625,-0.25) 26(-1.625,0.25) 27(-1.625,0.75) 28(-1.625,1.25) 29(-1.625,1.75) 30(-1.625,2.25) 31(-1.625,2.75) 32(-1.625,3.25) 33(-1.625,3.75) 34(-1.625,4.25) 35(-1.625,4.75) 36(-1.625,5.25) 37(-1.625,5.75) 38(-1.625,6.25) 39(-1.625,6.75) 40(-1.625,7.25) 41(-1.625,7.75) 42(-1.625,8.25) 43(-1.625,8.75) 44(-1.625,9.25) 45(-1.625,9.75) 46(-1.625,10.25) 47(-1.625,10.75) 48(-1.625,11.25) 49(-1.625,11.75) 50(-1.625,12.25) A1(8.875,-19.62) A2(8.875,-19.12) A3(8.875,-18.62) A4(8.875,-18.12) A5(8.875,-17.62)
Top Overlay:
  lines w0.254: -2.682,-16.207 3.795,-16.207 3.795,16.178 -2.682,16.178 -2.682,-16.207 ; 7.859,-23.319 11.796,-23.319 11.796,-13.921 7.859,-13.921 7.859,-23.319
Assembly:
  region: -1.158,-6.37 -1.158,-6.12 -1.875,-6.12 -1.875,-6.37
  region: -1.158,-5.87 -1.158,-5.62 -1.875,-5.62 -1.875,-5.87
  region: -1.158,-5.37 -1.158,-5.12 -1.875,-5.12 -1.875,-5.37
  region: -1.158,-4.87 -1.158,-4.62 -1.875,-4.62 -1.875,-4.87
  region: -1.158,-4.37 -1.158,-4.12 -1.875,-4.12 -1.875,-4.37
  region: -1.158,-3.87 -1.158,-3.62 -1.875,-3.62 -1.875,-3.87
  region: -1.158,-3.37 -1.158,-3.12 -1.875,-3.12 -1.875,-3.37
  region: -1.158,-2.87 -1.158,-2.62 -1.875,-2.62 -1.875,-2.87
  region: -1.158,-2.37 -1.158,-2.12 -1.875,-2.12 -1.875,-2.37
  region: -1.158,-1.87 -1.158,-1.62 -1.875,-1.62 -1.875,-1.87
  region: -1.158,-1.37 -1.158,-1.12 -1.875,-1.12 -1.875,-1.37
  region: -1.158,-0.87 -1.158,-0.62 -1.875,-0.62 -1.875,-0.87
  region: -1.158,-0.37 -1.158,-0.12 -1.875,-0.12 -1.875,-0.37
  region: -1.158,0.13 -1.158,0.38 -1.875,0.38 -1.875,0.13
  region: -1.158,0.63 -1.158,0.88 -1.875,0.88 -1.875,0.63
  region: -1.158,1.13 -1.158,1.38 -1.875,1.38 -1.875,1.13
  region: -1.158,1.63 -1.158,1.88 -1.875,1.88 -1.875,1.63
  region: -1.158,2.13 -1.158,2.38 -1.875,2.38 -1.875,2.13
  region: -1.158,2.63 -1.158,2.88 -1.875,2.88 -1.875,2.63
  region: -1.158,3.13 -1.158,3.38 -1.875,3.38 -1.875,3.13
  region: -1.158,3.63 -1.158,3.88 -1.875,3.88 -1.875,3.63
  region: -1.158,4.13 -1.158,4.38 -1.875,4.38 -1.875,4.13
  region: -1.158,4.63 -1.158,4.88 -1.875,4.88 -1.875,4.63
  region: -1.158,5.13 -1.158,5.38 -1.875,5.38 -1.875,5.13
  region: -1.158,5.63 -1.158,5.88 -1.875,5.88 -1.875,5.63
  region: -1.158,6.13 -1.158,6.38 -1.875,6.38 -1.875,6.13
  region: -1.158,6.63 -1.158,6.88 -1.875,6.88 -1.875,6.63
  region: -1.158,7.13 -1.158,7.38 -1.875,7.38 -1.875,7.13
  region: -1.158,7.63 -1.158,7.88 -1.875,7.88 -1.875,7.63
  region: -1.158,8.13 -1.158,8.38 -1.875,8.38 -1.875,8.13
  region: -1.158,8.63 -1.158,8.88 -1.875,8.88 -1.875,8.63
  region: -1.158,9.13 -1.158,9.38 -1.875,9.38 -1.875,9.13
  region: -1.158,9.63 -1.158,9.88 -1.875,9.88 -1.875,9.63
  region: -1.158,10.13 -1.158,10.38 -1.875,10.38 -1.875,10.13
  region: -1.158,10.63 -1.158,10.88 -1.875,10.88 -1.875,10.63
  region: -1.158,11.13 -1.158,11.38 -1.875,11.38 -1.875,11.13
  region: -1.158,11.63 -1.158,11.88 -1.875,11.88 -1.875,11.63
  region: -1.158,12.13 -1.158,12.38 -1.875,12.38 -1.875,12.13
  region: -1.158,-6.87 -1.158,-6.62 -1.875,-6.62 -1.875,-6.87
  region: -1.158,-7.37 -1.158,-7.12 -1.875,-7.12 -1.875,-7.37
  region: -1.158,-7.87 -1.158,-7.62 -1.875,-7.62 -1.875,-7.87
  region: -1.158,-8.37 -1.158,-8.12 -1.875,-8.12 -1.875,-8.37
  region: -1.158,-8.87 -1.158,-8.62 -1.875,-8.62 -1.875,-8.87
  region: -1.158,-9.37 -1.158,-9.12 -1.875,-9.12 -1.875,-9.37
  region: -1.158,-9.87 -1.158,-9.62 -1.875,-9.62 -1.875,-9.87
  region: -1.158,-10.37 -1.158,-10.12 -1.875,-10.12 -1.875,-10.37
  region: -1.158,-10.87 -1.158,-10.62 -1.875,-10.62 -1.875,-10.87
  region: -1.158,-11.37 -1.158,-11.12 -1.875,-11.12 -1.875,-11.37
  region: -1.158,-11.87 -1.158,-11.62 -1.875,-11.62 -1.875,-11.87
  region: -1.158,-12.37 -1.158,-12.12 -1.875,-12.12 -1.875,-12.37
  region: 9.256,-17.731 9.256,-17.477 8.494,-17.477 8.494,-17.731
  region: 9.256,-18.239 9.256,-17.985 8.494,-17.985 8.494,-18.239
  region: 9.256,-18.747 9.256,-18.493 8.494,-18.493 8.494,-18.747
  region: 9.256,-19.255 9.256,-19.001 8.494,-19.001 8.494,-19.255
  region: 9.256,-19.763 9.256,-19.509 8.494,-19.509 8.494,-19.763
  lines w0.254: 2.906,-14.048 -1.158,-14.048 -1.158,14.019 2.906,14.019 ; 4.557,-11 8.367,-14.81 ; 4.557,-8.079 8.367,-11.889 ; 4.557,-3.888 8.367,-7.698 ; 4.557,0.557 8.367,-3.253 ; 4.557,5.51 8.367,1.7 ; 4.557,10.209 8.367,6.399 ; 4.557,14.781 8.367,10.971 ; 11.669,-21.033 11.669,-20.652 ; 11.669,-16.588 11.669,-16.08 ; 11.923,-19.001 13.574,-20.652 ; 11.923,-17.223 15.352,-20.652 ; 13.701,-16.588 15.733,-18.62 ; 4.557,-15.445 2.906,-15.445 2.906,15.416 4.557,15.416 ; 4.557,-15.445 4.557,-14.048 4.557,14.019 4.557,15.416 ; 4.557,-15.445 8.367,-15.445 8.367,15.416 4.557,15.416 ; 11.923,-20.652 9.256,-20.652 9.256,-16.588 11.923,-16.588 ; 11.923,-20.652 11.923,-16.588 ; 11.923,-20.652 15.733,-20.652 15.733,-16.588 11.923,-16.588
  text "NO COMPONENT AREAS" at 6.589,-8.079 h1.02
Assembly Designator:
  text ".Designator" at 0.508,0.889 h1.02
Assembly Comment:
  text ".Comment" at -0.381,4.191 h1.02

## FPC 40x0.5mm A 041913 [mm] "SMT"
height 2.5
pads (44):
  rect 2x2.2 smd mask+0.038: 0(-11.92,-1.772) 0(11.18,-1.772)
  round 1.016 on Mech1 mask+0.038: 0(10.518,1.772)
  round 1.016 on Top Overlay mask+0.038: 0(11.818,1.772)
  rect 0.3x1.3 smd mask+0.038: 1(9.38,1.478) 2(8.88,1.478) 3(8.38,1.478) 4(7.88,1.478) 5(7.38,1.478) 6(6.88,1.478) 7(6.38,1.478) 8(5.88,1.478) 9(5.38,1.478) 10(4.88,1.478) 11(4.38,1.478) 12(3.88,1.478) 13(3.38,1.478) 14(2.88,1.478) 15(2.38,1.478) 16(1.88,1.478) 17(1.38,1.478) 18(0.88,1.478) 19(0.38,1.478) 20(-0.12,1.478) 21(-0.62,1.478) 22(-1.12,1.478) 23(-1.62,1.478) 24(-2.12,1.478) 25(-2.62,1.478) 26(-3.12,1.478) 27(-3.62,1.478) 28(-4.12,1.478) 29(-4.62,1.478) 30(-5.12,1.478) 31(-5.62,1.478) 32(-6.12,1.478) 33(-6.62,1.478) 34(-7.12,1.478) 35(-7.62,1.478) 36(-8.12,1.478) 37(-8.62,1.478) 38(-9.12,1.478) 39(-9.62,1.478) 40(-10.12,1.478)
Top Overlay:
  lines w0.254: -13.42,-5.193 -13.42,2.657 -0.37,2.657 12.58,2.657 12.68,2.657 12.68,-5.193 12.58,-5.193 -0.37,-5.193 -13.42,-5.193
Assembly:
  lines w0.254: -11.92,-3.693 10.48,-3.693 11.18,-3.693 ; -11.92,-2.306 -12.42,-2.306 -12.42,-1.093 -11.92,-1.093 ; -10.12,0.907 -10.12,1.707 ; -9.62,0.907 -9.62,1.707 ; -9.12,0.907 -9.12,1.707 ; -8.62,0.907 -8.62,1.707 ; -8.12,0.907 -8.12,1.707 ; -7.62,0.907 -7.62,1.707 ; -7.12,0.907 -7.12,1.707 ; -6.62,0.907 -6.62,1.707 ; -6.12,0.907 -6.12,1.707 ; -5.62,0.907 -5.62,1.707 ; -5.12,0.907 -5.12,1.707 ; -4.62,0.907 -4.62,1.707 ; -4.12,0.907 -4.12,1.707 ; -3.62,0.907 -3.62,1.707 ; -3.12,0.907 -3.12,1.707 ; -2.62,0.907 -2.62,1.707 ; -2.12,0.907 -2.12,1.707 ; -1.62,0.907 -1.62,1.707 ; -1.12,0.907 -1.12,1.707 ; -0.62,0.907 -0.62,1.707 ; -0.12,0.907 -0.12,1.707 ; 0.38,0.907 0.38,1.707 ; 0.88,0.907 0.88,1.707 ; 1.38,0.907 1.38,1.707 ; 1.88,0.907 1.88,1.707 ; 2.38,0.907 2.38,1.707 ; 2.88,0.907 2.88,1.707 ; 3.38,0.907 3.38,1.707 ; 3.88,0.907 3.88,1.707 ; 4.38,0.907 4.38,1.707 ; 4.88,0.907 4.88,1.707 ; 5.38,0.907 5.38,1.707 ; 5.88,0.907 5.88,1.707 ; 6.38,0.907 6.38,1.707 ; 6.88,0.907 6.88,1.707 ; 7.38,0.907 7.38,1.707 ; 7.88,0.907 7.88,1.707 ; 8.38,0.907 8.38,1.707 ; 8.88,0.907 8.88,1.707 ; 9.38,0.907 9.38,1.707 ; 11.18,-4.093 11.18,-3.693 ; 11.18,-2.293 11.68,-2.293 11.68,-1.093 11.18,-1.093 ; 11.18,-3.693 11.18,-4.693 -11.92,-4.693 -11.92,0.907 11.18,0.907 11.18,-3.693
Assembly Designator:
  text ".Designator" at -1.72,-0.693 h1.02
Assembly Comment:
  text ".Comment" at -4.67,-2.543 h1.02

## LQFP32_030305 [mm] "SMT"
height 2.54
pads (34):
  round 1.016 on Top Overlay mask+0.038: 0(-2.743,-6.223)
  round 1.016 on Mech1 mask+0.038: 0(-2.083,-2.642)
  rect 0.4x1 smd mask+0.038: 1(-2.8,-4.5) 2(-2,-4.5) 3(-1.2,-4.5) 4(-0.4,-4.5) 5(0.4,-4.5) 6(1.2,-4.5) 7(2,-4.5) 8(2.8,-4.5) 17(2.8,4.5) 18(2,4.5) 19(1.2,4.5) 20(0.4,4.5) 21(-0.4,4.5) 22(-1.2,4.5) 23(-2,4.5) 24(-2.8,4.5)
  rect 1x0.4 smd mask+0.038: 9(4.5,-2.8) 10(4.5,-2) 11(4.5,-1.2) 12(4.5,-0.4) 13(4.5,0.4) 14(4.5,1.2) 15(4.5,2) 16(4.5,2.8) 25(-4.5,2.8) 26(-4.5,2) 27(-4.5,1.2) 28(-4.5,0.4) 29(-4.5,-0.4) 30(-4.5,-1.2) 31(-4.5,-2) 32(-4.5,-2.8)
Top Layer keep-out:
  lines w0.254: -4.877,-3.353 -4.496,-3.353 ; -4.877,3.353 -4.496,3.353 ; -3.353,-4.902 -3.353,-4.521 ; -3.353,4.521 -3.353,4.902 ; 3.353,-4.902 3.353,-4.521 ; 3.353,4.521 3.353,4.902 ; 4.496,-3.353 4.877,-3.353 ; 4.496,3.353 4.877,3.353
Top Overlay:
  lines w0.254: -5.5,-4 -5.5,5.4 2.8,5.4 5.4,5.4 5.4,-5.4 -4.1,-5.4 -5.5,-4
Assembly:
  lines w0.254: -4.5,-2.8 -3.5,-2.8 -3.1,-2.8 ; -4.5,-2 -3.5,-2 ; -4.5,-1.2 -3.5,-1.2 ; -4.5,-0.4 -3.5,-0.4 ; -4.5,0.4 -3.5,0.4 ; -4.5,1.2 -3.5,1.2 ; -4.5,2 -3.5,2 ; -4.5,2.8 -3.5,2.8 ; -2.8,-4.5 -2.8,-3.5 -2.8,-3.1 ; -2.8,3.5 -2.8,4.5 ; -2,-4.5 -2,-3.5 ; -2,3.5 -2,4.5 ; -1.2,-4.5 -1.2,-3.5 ; -1.2,3.5 -1.2,4.5 ; -0.4,-4.5 -0.4,-3.5 ; -0.4,3.5 -0.4,4.5 ; 0,3.5 3.5,3.5 ; 0.4,-4.5 0.4,-3.5 ; 0.4,3.5 0.4,4.5 ; 1.2,-4.5 1.2,-3.5 ; 1.2,3.5 1.2,4.5 ; 2,-4.5 2,-3.5 ; 2,3.5 2,4.5 ; 2.8,-4.5 2.8,-3.5 ; 2.8,3.5 2.8,4.5 ; 3.5,-2.8 4.5,-2.8 ; 3.5,-2 4.5,-2 ; 3.5,-1.2 4.5,-1.2 ; 3.5,-0.4 4.5,-0.4 ; 3.5,0.4 4.5,0.4 ; 3.5,1.2 4.5,1.2 ; 3.5,2 4.5,2 ; 3.5,2.8 4.5,2.8 ; 3.5,3.5 -3.5,3.5 -3.5,-2.4 -2.4,-3.5 3.5,-3.5 3.5,3.5
Assembly Designator:
  text ".Designator" at -1.651,-0.254 h1.02
Assembly Comment:
  text ".Comment" at -3.175,2.032 h1.02

## LQFP32_030305 NO KO [mm] "SMT"
height 2.54
pads (34):
  round 1.016 on Top Overlay mask+0.038: 0(-2.743,-6.248)
  round 1.016 on Mech1 mask+0.038: 0(-2.083,-2.667)
  rect 0.4x1 smd mask+0.038: 1(-2.8,-4.5) 2(-2,-4.5) 3(-1.2,-4.5) 4(-0.4,-4.5) 5(0.4,-4.5) 6(1.2,-4.5) 7(2,-4.5) 8(2.8,-4.5) 17(2.8,4.5) 18(2,4.5) 19(1.2,4.5) 20(0.4,4.5) 21(-0.4,4.5) 22(-1.2,4.5) 23(-2,4.5) 24(-2.8,4.5)
  rect 1x0.4 smd mask+0.038: 9(4.5,-2.8) 10(4.5,-2) 11(4.5,-1.2) 12(4.5,-0.4) 13(4.5,0.4) 14(4.5,1.2) 15(4.5,2) 16(4.5,2.8) 25(-4.5,2.8) 26(-4.5,2) 27(-4.5,1.2) 28(-4.5,0.4) 29(-4.5,-0.4) 30(-4.5,-1.2) 31(-4.5,-2) 32(-4.5,-2.8)
Top Overlay:
  lines w0.254: -5.5,-4 -4.1,-5.4 5.4,-5.4 5.4,5.4 2.8,5.4 -5.5,5.4 -5.5,-4
Assembly:
  lines w0.254: -4.5,-2.8 -3.5,-2.8 -3.1,-2.8 ; -4.5,-2 -3.5,-2 ; -4.5,-1.2 -3.5,-1.2 ; -4.5,-0.4 -3.5,-0.4 ; -4.5,0.4 -3.5,0.4 ; -4.5,1.2 -3.5,1.2 ; -4.5,2 -3.5,2 ; -4.5,2.8 -3.5,2.8 ; -2.8,-4.5 -2.8,-3.5 -2.8,-3.1 ; -2.8,3.5 -2.8,4.5 ; -2,-4.5 -2,-3.5 ; -2,3.5 -2,4.5 ; -1.2,-4.5 -1.2,-3.5 ; -1.2,3.5 -1.2,4.5 ; -0.4,-4.5 -0.4,-3.5 ; -0.4,3.5 -0.4,4.5 ; 0,3.5 3.5,3.5 ; 0.4,-4.5 0.4,-3.5 ; 0.4,3.5 0.4,4.5 ; 1.2,-4.5 1.2,-3.5 ; 1.2,3.5 1.2,4.5 ; 2,-4.5 2,-3.5 ; 2,3.5 2,4.5 ; 2.8,-4.5 2.8,-3.5 ; 2.8,3.5 2.8,4.5 ; 3.5,-2.8 4.5,-2.8 ; 3.5,-2 4.5,-2 ; 3.5,-1.2 4.5,-1.2 ; 3.5,-0.4 4.5,-0.4 ; 3.5,0.4 4.5,0.4 ; 3.5,1.2 4.5,1.2 ; 3.5,2 4.5,2 ; 3.5,2.8 4.5,2.8 ; 3.5,3.5 3.5,-3.5 -2.4,-3.5 -3.5,-2.4 -3.5,3.5 3.5,3.5
Assembly Designator:
  text ".Designator" at -1.651,-0.254 h1.02
Assembly Comment:
  text ".Comment" at -3.175,2.032 h1.02

## LQFP48 030305 [mm] "SMT FP"
height 2.54
pads (50):
  round 1.016 on Top Overlay mask+0.038: 0(-2.718,-6.172)
  round 1.016 on Mech1 mask+0.038: 0(-2.108,-2.718)
  rect 0.26x1 smd mask+0.038: 1(-2.75,-4.5) 2(-2.25,-4.5) 3(-1.75,-4.5) 4(-1.25,-4.5) 5(-0.75,-4.5) 6(-0.25,-4.5) 7(0.25,-4.5) 8(0.75,-4.5) 9(1.25,-4.5) 10(1.75,-4.5) 11(2.25,-4.5) 12(2.75,-4.5) 25(2.75,4.5) 26(2.25,4.5) 27(1.75,4.5) 28(1.25,4.5) 29(0.75,4.5) 30(0.25,4.5) 31(-0.25,4.5) 32(-0.75,4.5) 33(-1.25,4.5) 34(-1.75,4.5) 35(-2.25,4.5) 36(-2.75,4.5)
  rect 1x0.26 smd mask+0.038: 13(4.5,-2.75) 14(4.5,-2.25) 15(4.5,-1.75) 16(4.5,-1.25) 17(4.5,-0.75) 18(4.5,-0.25) 19(4.5,0.25) 20(4.5,0.75) 21(4.5,1.25) 22(4.5,1.75) 23(4.5,2.25) 24(4.5,2.75) 37(-4.5,2.75) 38(-4.5,2.25) 39(-4.5,1.75) 40(-4.5,1.25) 41(-4.5,0.75) 42(-4.5,0.25) 43(-4.5,-0.25) 44(-4.5,-0.75) 45(-4.5,-1.25) 46(-4.5,-1.75) 47(-4.5,-2.25) 48(-4.5,-2.75)
Top Layer keep-out:
  lines w0.254: -4.928,3.073 -4.42,3.073 ; -4.902,-3.073 -4.394,-3.073 ; -3.073,-4.902 -3.073,-4.394 ; -3.073,4.394 -3.073,4.902 ; 3.073,-4.902 3.073,-4.394 ; 3.073,4.394 3.073,4.902 ; 4.394,-3.073 4.902,-3.073 ; 4.394,3.073 4.902,3.073
Top Overlay:
  lines w0.254: -5.4,-3.6 -3.7,-5.3 -3.6,-5.4 5.4,-5.4 5.4,5.4 4.9,5.4 -5.4,5.4 -5.4,-3.6
Assembly:
  lines w0.254: -4.5,-2.75 -3.5,-2.75 -3.15,-2.75 ; -4.5,-2.25 -3.5,-2.25 ; -4.5,-1.75 -3.5,-1.75 ; -4.5,-1.25 -3.5,-1.25 ; -4.5,-0.75 -3.5,-0.75 ; -4.5,-0.25 -3.5,-0.25 ; -4.5,0.25 -3.5,0.25 ; -4.5,0.75 -3.5,0.75 ; -4.5,1.25 -3.5,1.25 ; -4.5,1.75 -3.5,1.75 ; -4.5,2.25 -3.5,2.25 ; -4.5,2.75 -3.5,2.75 ; -2.75,-4.5 -2.75,-3.5 -2.75,-3.15 ; -2.75,3.5 -2.75,4.5 ; -2.25,-4.5 -2.25,-3.5 ; -2.25,3.5 -2.25,4.5 ; -1.75,-4.5 -1.75,-3.5 ; -1.75,3.5 -1.75,4.5 ; -1.25,-4.5 -1.25,-3.5 ; -1.25,3.5 -1.25,4.5 ; -0.75,-4.5 -0.75,-3.5 ; -0.75,3.5 -0.75,4.5 ; -0.25,-4.5 -0.25,-3.5 ; -0.25,3.5 -0.25,4.5 ; 0.25,-4.5 0.25,-3.5 ; 0.25,3.5 0.25,4.5 ; 0.75,-4.5 0.75,-3.5 ; 0.75,3.5 0.75,4.5 ; 1.25,-4.5 1.25,-3.5 ; 1.25,3.5 1.25,4.5 ; 1.75,-4.5 1.75,-3.5 ; 1.75,3.5 1.75,4.5 ; 2.25,-4.5 2.25,-3.5 ; 2.25,3.5 2.25,4.5 ; 2.75,-4.5 2.75,-3.5 ; 2.75,3.5 2.75,4.5 ; 3.5,-2.75 4.5,-2.75 ; 3.5,-2.25 4.5,-2.25 ; 3.5,-1.75 4.5,-1.75 ; 3.5,-1.25 4.5,-1.25 ; 3.5,-0.75 4.5,-0.75 ; 3.5,-0.25 4.5,-0.25 ; 3.5,0 3.5,3.5 ; 3.5,0.25 4.5,0.25 ; 3.5,0.75 4.5,0.75 ; 3.5,1.25 4.5,1.25 ; 3.5,1.75 4.5,1.75 ; 3.5,2.25 4.5,2.25 ; 3.5,2.75 4.5,2.75 ; -3.5,3.5 3.5,3.5 ; -3.5,3.5 -3.5,-2.4 -2.4,-3.5 3.5,-3.5 ; -3.5,3.5 0,3.5 3.5,3.5 ; 3.5,-3.5 3.5,3.5 ; 3.5,-3.5 3.5,-3.5
Assembly Designator:
  text ".Designator" at -1.143,0 h1.02
Assembly Comment:
  text ".Comment" at -3.048,-1.524 h1.02

## LQFP48 030305 NO KO [mm] "SMT FP"
height 2.54
pads (50):
  round 1.016 on Top Overlay mask+0.038: 0(-2.692,-6.147)
  round 1.016 on Mech1 mask+0.038: 0(-2.083,-2.692)
  rect 0.26x1 smd mask+0.038: 1(-2.75,-4.5) 2(-2.25,-4.5) 3(-1.75,-4.5) 4(-1.25,-4.5) 5(-0.75,-4.5) 6(-0.25,-4.5) 7(0.25,-4.5) 8(0.75,-4.5) 9(1.25,-4.5) 10(1.75,-4.5) 11(2.25,-4.5) 12(2.75,-4.5) 25(2.75,4.5) 26(2.25,4.5) 27(1.75,4.5) 28(1.25,4.5) 29(0.75,4.5) 30(0.25,4.5) 31(-0.25,4.5) 32(-0.75,4.5) 33(-1.25,4.5) 34(-1.75,4.5) 35(-2.25,4.5) 36(-2.75,4.5)
  rect 1x0.26 smd mask+0.038: 13(4.5,-2.75) 14(4.5,-2.25) 15(4.5,-1.75) 16(4.5,-1.25) 17(4.5,-0.75) 18(4.5,-0.25) 19(4.5,0.25) 20(4.5,0.75) 21(4.5,1.25) 22(4.5,1.75) 23(4.5,2.25) 24(4.5,2.75) 37(-4.5,2.75) 38(-4.5,2.25) 39(-4.5,1.75) 40(-4.5,1.25) 41(-4.5,0.75) 42(-4.5,0.25) 43(-4.5,-0.25) 44(-4.5,-0.75) 45(-4.5,-1.25) 46(-4.5,-1.75) 47(-4.5,-2.25) 48(-4.5,-2.75)
Top Overlay:
  lines w0.254: -5.4,-3.6 -5.4,5.4 4.9,5.4 5.4,5.4 5.4,-5.4 -3.6,-5.4 -3.7,-5.3 -5.4,-3.6
Assembly:
  lines w0.254: -4.5,-2.75 -3.5,-2.75 -3.15,-2.75 ; -4.5,-2.25 -3.5,-2.25 ; -4.5,-1.75 -3.5,-1.75 ; -4.5,-1.25 -3.5,-1.25 ; -4.5,-0.75 -3.5,-0.75 ; -4.5,-0.25 -3.5,-0.25 ; -4.5,0.25 -3.5,0.25 ; -4.5,0.75 -3.5,0.75 ; -4.5,1.25 -3.5,1.25 ; -4.5,1.75 -3.5,1.75 ; -4.5,2.25 -3.5,2.25 ; -4.5,2.75 -3.5,2.75 ; -2.75,-4.5 -2.75,-3.5 -2.75,-3.15 ; -2.75,3.5 -2.75,4.5 ; -2.25,-4.5 -2.25,-3.5 ; -2.25,3.5 -2.25,4.5 ; -1.75,-4.5 -1.75,-3.5 ; -1.75,3.5 -1.75,4.5 ; -1.25,-4.5 -1.25,-3.5 ; -1.25,3.5 -1.25,4.5 ; -0.75,-4.5 -0.75,-3.5 ; -0.75,3.5 -0.75,4.5 ; -0.25,-4.5 -0.25,-3.5 ; -0.25,3.5 -0.25,4.5 ; 0.25,-4.5 0.25,-3.5 ; 0.25,3.5 0.25,4.5 ; 0.75,-4.5 0.75,-3.5 ; 0.75,3.5 0.75,4.5 ; 1.25,-4.5 1.25,-3.5 ; 1.25,3.5 1.25,4.5 ; 1.75,-4.5 1.75,-3.5 ; 1.75,3.5 1.75,4.5 ; 2.25,-4.5 2.25,-3.5 ; 2.25,3.5 2.25,4.5 ; 2.75,-4.5 2.75,-3.5 ; 2.75,3.5 2.75,4.5 ; 3.5,-2.75 4.5,-2.75 ; 3.5,-2.25 4.5,-2.25 ; 3.5,-1.75 4.5,-1.75 ; 3.5,-1.25 4.5,-1.25 ; 3.5,-0.75 4.5,-0.75 ; 3.5,-0.25 4.5,-0.25 ; 3.5,0 3.5,3.5 ; 3.5,0.25 4.5,0.25 ; 3.5,0.75 4.5,0.75 ; 3.5,1.25 4.5,1.25 ; 3.5,1.75 4.5,1.75 ; 3.5,2.25 4.5,2.25 ; 3.5,2.75 4.5,2.75 ; -3.5,3.5 0,3.5 3.5,3.5 ; -3.5,3.5 -3.5,-2.4 -2.4,-3.5 3.5,-3.5 ; -3.5,3.5 3.5,3.5 ; 3.5,-3.5 3.5,-3.5 ; 3.5,-3.5 3.5,3.5
Assembly Designator:
  text ".Designator" at -1.143,0 h1.02
Assembly Comment:
  text ".Comment" at -3.048,-1.524 h1.02

## QFN28_30_091907 [mm] "SMT"
height 1
pads (31):
  round 0.5 smd mask+0.038: 0(2.9,-2.9)
  rect 0.6x0.3 smd mask+0.038: 1(2.3,-1.5) 2(2.3,-1) 3(2.3,-0.5) 4(2.3,0) 5(2.3,0.5) 6(2.3,1) 7(2.3,1.5) 15(-2.3,1.5) 16(-2.3,1) 17(-2.3,0.5) 18(-2.3,0) 19(-2.3,-0.5) 20(-2.3,-1) 21(-2.3,-1.5)
  rect 0.3x0.6 smd mask+0.038: 8(1.5,2.3) 9(1,2.3) 10(0.5,2.3) 11(0,2.3) 12(-0.5,2.3) 13(-1,2.3) 14(-1.5,2.3) 22(-1.5,-2.3) 23(-1,-2.3) 24(-0.5,-2.3) 25(0,-2.3) 26(0.5,-2.3) 27(1,-2.3) 28(1.5,-2.3)
  rect 0.5x0.5 smd mask+0.038: 29(2.1,-2.1)
  rrect25% 2.9x2.9 smd paste-14: 30(0,0)
Top Layer keep-out:
  lines w0.2: -2.5,-1.95 -1.95,-1.95 -1.95,-2.5 ; -2.5,1.95 -1.95,1.95 -1.95,2.5 ; 1.95,2.5 1.95,1.95 2.5,1.95
Top Overlay:
  lines w0.254: -3,-3 -3,3 3,3 3,-2 2,-3 -3,-3
Assembly:
  lines w0.254: -2.3,-2.3 -2.3,2.3 2.3,2.3 2.3,-1.6 1.6,-2.3 -2.3,-2.3
Assembly Designator:
  text ".Designator" at -1.3,-0.4 h1.02
Assembly Comment:
  text ".Comment" at -2.9,-5.1 h1.02

## QFN28_091907 [mm] "SMT"
height 0.889
pads (29):
  rect 0.28x1 smd mask+0.038: 1(-1.5,-2.5) 2(-1,-2.5) 3(-0.5,-2.5) 4(0,-2.5) 5(0.5,-2.5) 6(1,-2.5) 7(1.5,-2.5) 15(1.5,2.5) 16(1,2.5) 17(0.5,2.5) 18(0,2.5) 19(-0.5,2.5) 20(-1,2.5) 21(-1.5,2.5)
  rect 1x0.28 smd mask+0.038: 8(2.5,-1.5) 9(2.5,-1) 10(2.5,-0.5) 11(2.5,0) 12(2.5,0.5) 13(2.5,1) 14(2.5,1.5) 22(-2.5,1.5) 23(-2.5,1) 24(-2.5,0.5) 25(-2.5,0) 26(-2.5,-0.5) 27(-2.5,-1) 28(-2.5,-1.5)
  rect 2.7x2.7 smd paste-0.508 mask+0.038: 29(0,0)
Top Overlay:
  lines w0.254: -3.425,-1.925 -3.425,0 -3.425,3.4 -1.1,3.4 1.1,3.4 3.425,3.4 3.425,0 3.425,-3.4 1.1,-3.4 0,-3.4 -1.95,-3.4 -2,-3.35 -3.425,-1.925
Assembly:
  lines w0.254: 0,2.5 -2.5,2.5 ; -2.5,2.5 2.5,2.5 2.5,-2.5 -1.775,-2.5 -1.95,-2.325 -2.5,-1.775 -2.5,2.5
Assembly Designator:
  text ".Designator" at -0.875,-0.35 h1.02
Assembly Comment:
  text ".Comment" at -2.6,-5 h1.02